# EAGLE library part FT232RL (library IC & Transistor)
USB to UART Converter.
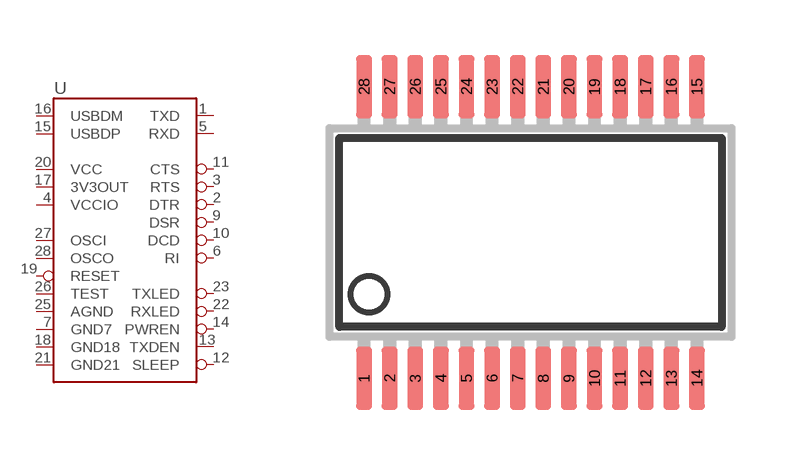
[diagram p9: symbol with the pads of SSOP-28; footprint SSOP-28]

Designator prefix U

## FT232RLSSOP (CYTRON-PC: S-IC-FT232RL-SSOP28; DESC: S USB UART FT232RL SSOP28; MF: FTDI; MPN: FT232RL)  [SSOP-28]
1  TXD
2  DTR
3  RTS
4  VCCIO
5  RXD
6  RI
7  GND7
9  DSR
10  DCD
11  CTS
12  SLEEP
13  TXDEN
14  PWREN
15  USBDP
16  USBDM
17  3V3OUT
18  GND18
19  RESET
20  VCC
21  GND21
22  RXLED
23  TXLED
25  AGND
26  TEST
27  OSCI
28  OSCO

## Footprint SSOP-28 (pad centres in mm)
Shrink Small Outline Package (SSOP) Size: 10.2 x 5.3mm Lead Pitch: 0.65mm
smd 0.4 x 1.6: 1 -4.225,-3.7; 2 -3.575,-3.7; 3 -2.925,-3.7; 4 -2.275,-3.7; 5 -1.625,-3.7; 6 -0.975,-3.7; 7 -0.325,-3.7; 8 0.325,-3.7; 9 0.975,-3.7; 10 1.625,-3.7; 11 2.275,-3.7; 12 2.925,-3.7; 13 3.575,-3.7; 14 4.225,-3.7; 15 4.225,3.7; 16 3.575,3.7; 17 2.925,3.7; 18 2.275,3.7; 19 1.625,3.7; 20 0.975,3.7; 21 0.325,3.7; 22 -0.325,3.7; 23 -0.975,3.7; 24 -1.625,3.7; 25 -2.275,3.7; 26 -2.925,3.7; 27 -3.575,3.7; 28 -4.225,3.7